# Altium integrated library TI Amplifiers and Linear Difference Amplifier.IntLib: 154 symbols (part 1 of 5)
Pins are listed as number, name and electrical type; pins without a type are passive.

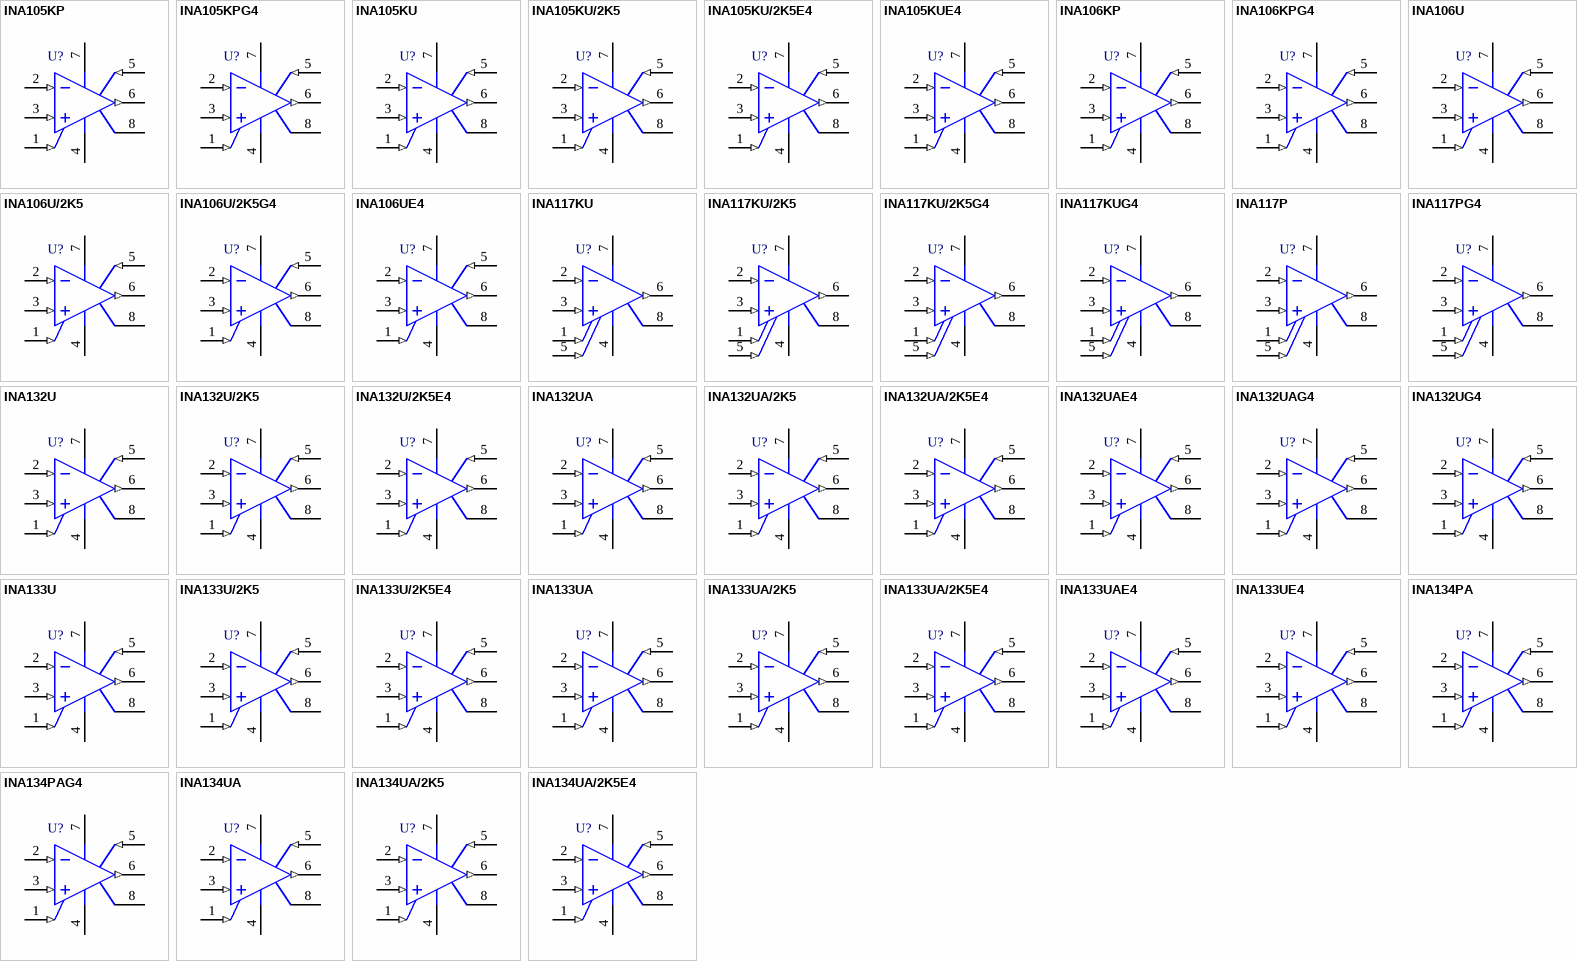
[diagram p0: symbols INA105KP to INA134UA/2K5E4]

## INA105KP
designator U?
Precision Unity Gain Differential Amplifier, -40 to 85 degC, 8-pin DIP (P8), Green (RoHS & no Sb/Br); Manufacturer: Texas Instruments; PartNumber: INA105KP; CMRR(Min)(dB): 72; Gain(V/V): 1; Input Offset (+/-)(Max)(uV): 500; Slew Rate(Typ)(V/us): 3; SubFamily: Difference Amplifier; Vs(Max)(V): 36; Vs(Min)(V): 10; DatasheetVersion: SBOS145; PackageVersion: 4040082/E, 04/2010; PackageReference: P8; PackageDescription: 8-Pin Plastic In-Line, Body 9.59 x 6.35 mm, Pitch 2.54 mm; Supplier 1: Digi-Key; Supplier Part Number 1: INA105KP-ND; Supplier 2: Farnell; Supplier Part Number 2: 1651850; Supplier 3: Newark; Supplier Part Number 3: 04M4538; Supplier 4: Mouser; Supplier Part Number 4: 595-INA105KP; Eco-Plan: Green (RoHS & no Sb/Br); Number of Channels: 1; Mounting Technology: Through Hole; Code_JEDEC: MS-001; ComponentLink1Description: Manufacturer URL; ComponentLink1URL: http://www.ti.com/; ComponentLink2Description: Datasheet; ComponentLink2URL: http://www.ti.com/general/docs/lit/getliterature.tsp?genericPartNumber=INA105&fileType=pdf; ComponentLink3Description: Package Specification; ComponentLink3URL: http://www.ti.com/litv/pdf/mpdi001b
footprint TI-P8 (DIP, 8-Leads, Body 10.15x6.6mm, Pitch 2.54mm)
pins: 1 REF (in), 2 IN- (in), 3 IN+ (in), 4 V- (power), 5 SENSE (in), 6 OUT (out), 7 V+ (power), 8 NC

## INA105KPG4
designator U?
Precision Unity Gain Differential Amplifier, -40 to 85 degC, 8-pin DIP (P8), Green (RoHS & no Sb/Br); Manufacturer: Texas Instruments; PartNumber: INA105KPG4; CMRR(Min)(dB): 72; Gain(V/V): 1; Input Offset (+/-)(Max)(uV): 500; Slew Rate(Typ)(V/us): 3; SubFamily: Difference Amplifier; Vs(Max)(V): 36; Vs(Min)(V): 10; DatasheetVersion: SBOS145; PackageVersion: 4040082/E, 04/2010; PackageReference: P8; PackageDescription: 8-Pin Plastic In-Line, Body 9.59 x 6.35 mm, Pitch 2.54 mm; Supplier 1: Digi-Key; Supplier Part Number 1: INA105KPG4-ND; Supplier 2: Newark; Supplier Part Number 2: 28M6051; Supplier 3: Mouser; Supplier Part Number 3: 595-INA105KPG4; Eco-Plan: Green (RoHS & no Sb/Br); Number of Channels: 1; Mounting Technology: Through Hole; Code_JEDEC: MS-001; ComponentLink1Description: Manufacturer URL; ComponentLink1URL: http://www.ti.com/; ComponentLink2Description: Datasheet; ComponentLink2URL: http://www.ti.com/general/docs/lit/getliterature.tsp?genericPartNumber=INA105&fileType=pdf; ComponentLink3Description: Package Specification; ComponentLink3URL: http://www.ti.com/litv/pdf/mpdi001b
footprint TI-P8 (DIP, 8-Leads, Body 10.15x6.6mm, Pitch 2.54mm)
pins: 1 REF (in), 2 IN- (in), 3 IN+ (in), 4 V- (power), 5 SENSE (in), 6 OUT (out), 7 V+ (power), 8 NC

## INA105KU
designator U?
Precision Unity Gain Differential Amplifier, -40 to 85 degC, 8-pin SOIC (D8), Green (RoHS & no Sb/Br); Manufacturer: Texas Instruments; PartNumber: INA105KU; CMRR(Min)(dB): 72; Gain(V/V): 1; Input Offset (+/-)(Max)(uV): 500; Slew Rate(Typ)(V/us): 3; SubFamily: Difference Amplifier; Vs(Max)(V): 36; Vs(Min)(V): 10; DatasheetVersion: SBOS145; PackageVersion: 4040047-3/M, 06/2011; PackageReference: D8; PackageDescription: 8-Pin Plastic Small Outline, Body 4.9 x 3.9 mm, Pitch 1.27 mm; Supplier 1: Digi-Key; Supplier Part Number 1: INA105KU-ND; Supplier 2: Farnell; Supplier Part Number 2: 1754832; Supplier 3: Newark; Supplier Part Number 3: 35C0475; Supplier 4: Mouser; Supplier Part Number 4: 595-INA105KU; Eco-Plan: Green (RoHS & no Sb/Br); Number of Channels: 1; Mounting Technology: Surface Mount; Code_JEDEC: MS-012; ComponentLink1Description: Manufacturer URL; ComponentLink1URL: http://www.ti.com/; ComponentLink2Description: Datasheet; ComponentLink2URL: http://www.ti.com/general/docs/lit/getliterature.tsp?genericPartNumber=INA105&fileType=pdf; ComponentLink3Description: Package Specification; ComponentLink3URL: http://www.ti.com/litv/pdf/msoi002j
footprint TI-D8_N (SOIC, 8-Leads, Body 5x4mm, Pitch 1.27mm, IPC Medium Density)
footprint TI-D8_L (SOIC, 8-Leads, Body 5x4mm, Pitch 1.27mm, IPC High Density)
footprint TI-D8_M (SOIC, 8-Leads, Body 5x4mm, Pitch 1.27mm, IPC Low Density)
pins: 1 REF (in), 2 IN- (in), 3 IN+ (in), 4 V- (power), 5 SENSE (in), 6 OUT (out), 7 V+ (power), 8 NC

## INA105KU/2K5
designator U?
Precision Unity Gain Differential Amplifier, -40 to 85 degC, 8-pin SOIC (D8), Green (RoHS & no Sb/Br); Manufacturer: Texas Instruments; PartNumber: INA105KU/2K5; CMRR(Min)(dB): 72; Gain(V/V): 1; Input Offset (+/-)(Max)(uV): 500; Slew Rate(Typ)(V/us): 3; SubFamily: Difference Amplifier; Vs(Max)(V): 36; Vs(Min)(V): 10; DatasheetVersion: SBOS145; PackageVersion: 4040047-3/M, 06/2011; PackageReference: D8; PackageDescription: 8-Pin Plastic Small Outline, Body 4.9 x 3.9 mm, Pitch 1.27 mm; Supplier 1: Digi-Key; Supplier Part Number 1: INA105KU/2K5-ND; Supplier 2: Newark; Supplier Part Number 2: 74C9753; Supplier 3: Mouser; Supplier Part Number 3: 595-INA105KU/2K5; Eco-Plan: Green (RoHS & no Sb/Br); Number of Channels: 1; Mounting Technology: Surface Mount; Code_JEDEC: MS-012; ComponentLink1Description: Manufacturer URL; ComponentLink1URL: http://www.ti.com/; ComponentLink2Description: Datasheet; ComponentLink2URL: http://www.ti.com/general/docs/lit/getliterature.tsp?genericPartNumber=INA105&fileType=pdf; ComponentLink3Description: Package Specification; ComponentLink3URL: http://www.ti.com/litv/pdf/msoi002j
footprint TI-D8_N (SOIC, 8-Leads, Body 5x4mm, Pitch 1.27mm, IPC Medium Density)
footprint TI-D8_L (SOIC, 8-Leads, Body 5x4mm, Pitch 1.27mm, IPC High Density)
footprint TI-D8_M (SOIC, 8-Leads, Body 5x4mm, Pitch 1.27mm, IPC Low Density)
pins: 1 REF (in), 2 IN- (in), 3 IN+ (in), 4 V- (power), 5 SENSE (in), 6 OUT (out), 7 V+ (power), 8 NC

## INA105KU/2K5E4
designator U?
Precision Unity Gain Differential Amplifier, -40 to 85 degC, 8-pin SOIC (D8), Green (RoHS & no Sb/Br); Manufacturer: Texas Instruments; PartNumber: INA105KU/2K5E4; CMRR(Min)(dB): 72; Gain(V/V): 1; Input Offset (+/-)(Max)(uV): 500; Slew Rate(Typ)(V/us): 3; SubFamily: Difference Amplifier; Vs(Max)(V): 36; Vs(Min)(V): 10; DatasheetVersion: SBOS145; PackageVersion: 4040047-3/M, 06/2011; PackageReference: D8; PackageDescription: 8-Pin Plastic Small Outline, Body 4.9 x 3.9 mm, Pitch 1.27 mm; Supplier 1: Digi-Key; Supplier Part Number 1: INA105KU/2K5E4-ND; Supplier 2: Newark; Supplier Part Number 2: 61K0020; Supplier 3: Mouser; Supplier Part Number 3: 595-INA105KU/2K5E4; Eco-Plan: Green (RoHS & no Sb/Br); Number of Channels: 1; Mounting Technology: Surface Mount; Code_JEDEC: MS-012; ComponentLink1Description: Manufacturer URL; ComponentLink1URL: http://www.ti.com/; ComponentLink2Description: Datasheet; ComponentLink2URL: http://www.ti.com/general/docs/lit/getliterature.tsp?genericPartNumber=INA105&fileType=pdf; ComponentLink3Description: Package Specification; ComponentLink3URL: http://www.ti.com/litv/pdf/msoi002j
footprint TI-D8_N (SOIC, 8-Leads, Body 5x4mm, Pitch 1.27mm, IPC Medium Density)
footprint TI-D8_L (SOIC, 8-Leads, Body 5x4mm, Pitch 1.27mm, IPC High Density)
footprint TI-D8_M (SOIC, 8-Leads, Body 5x4mm, Pitch 1.27mm, IPC Low Density)
pins: 1 REF (in), 2 IN- (in), 3 IN+ (in), 4 V- (power), 5 SENSE (in), 6 OUT (out), 7 V+ (power), 8 NC

## INA105KUE4
designator U?
Precision Unity Gain Differential Amplifier, -40 to 85 degC, 8-pin SOIC (D8), Green (RoHS & no Sb/Br); Manufacturer: Texas Instruments; PartNumber: INA105KUE4; CMRR(Min)(dB): 72; Gain(V/V): 1; Input Offset (+/-)(Max)(uV): 500; Slew Rate(Typ)(V/us): 3; SubFamily: Difference Amplifier; Vs(Max)(V): 36; Vs(Min)(V): 10; DatasheetVersion: SBOS145; PackageVersion: 4040047-3/M, 06/2011; PackageReference: D8; PackageDescription: 8-Pin Plastic Small Outline, Body 4.9 x 3.9 mm, Pitch 1.27 mm; Supplier 1: Digi-Key; Supplier Part Number 1: INA105KUE4-ND; Supplier 2: Newark; Supplier Part Number 2: 61K0021; Supplier 3: Mouser; Supplier Part Number 3: 595-INA105KUE4; Eco-Plan: Green (RoHS & no Sb/Br); Number of Channels: 1; Mounting Technology: Surface Mount; Code_JEDEC: MS-012; ComponentLink1Description: Manufacturer URL; ComponentLink1URL: http://www.ti.com/; ComponentLink2Description: Datasheet; ComponentLink2URL: http://www.ti.com/general/docs/lit/getliterature.tsp?genericPartNumber=INA105&fileType=pdf; ComponentLink3Description: Package Specification; ComponentLink3URL: http://www.ti.com/litv/pdf/msoi002j
footprint TI-D8_N (SOIC, 8-Leads, Body 5x4mm, Pitch 1.27mm, IPC Medium Density)
footprint TI-D8_L (SOIC, 8-Leads, Body 5x4mm, Pitch 1.27mm, IPC High Density)
footprint TI-D8_M (SOIC, 8-Leads, Body 5x4mm, Pitch 1.27mm, IPC Low Density)
pins: 1 REF (in), 2 IN- (in), 3 IN+ (in), 4 V- (power), 5 SENSE (in), 6 OUT (out), 7 V+ (power), 8 NC

## INA106KP
designator U?
Precision Fixed-Gain Differential Amplifier, -40 to 85 degC, 8-pin DIP (P8), Green (RoHS & no Sb/Br); Manufacturer: Texas Instruments; PartNumber: INA106KP; CMRR(Min)(dB): 86; Gain(V/V): 10; Input Offset (+/-)(Max)(uV): 200; Number of Channels: 1; Slew Rate(Typ)(V/us): 3; SubFamily: Difference Amplifier; Vs(Max)(V): 36; DatasheetVersion: SBOS152A; PackageVersion: 4040082/E, 04/2010; PackageReference: P8; PackageDescription: 8-Pin Plastic In-Line, Body 9.59 x 6.35 mm, Pitch 2.54 mm; Supplier 1: Digi-Key; Supplier Part Number 1: INA106KP-ND; Supplier 2: Farnell; Supplier Part Number 2: 1417415; Supplier 3: Mouser; Supplier Part Number 3: 595-INA106KP; Eco-Plan: Green (RoHS & no Sb/Br); Vs(Min)(V): 10; Mounting Technology: Through Hole; Code_JEDEC: MS-001; ComponentLink1Description: Manufacturer URL; ComponentLink1URL: http://www.ti.com/; ComponentLink2Description: Datasheet; ComponentLink2URL: http://www.ti.com/general/docs/lit/getliterature.tsp?genericPartNumber=INA106&fileType=pdf; ComponentLink3Description: Package Specification; ComponentLink3URL: http://www.ti.com/litv/pdf/mpdi001b
footprint TI-P8 (DIP, 8-Leads, Body 10.15x6.6mm, Pitch 2.54mm)
pins: 1 REF (in), 2 IN- (in), 3 IN+ (in), 4 V- (power), 5 SENSE (in), 6 OUT (out), 7 V+ (power), 8 NC

## INA106KPG4
designator U?
Precision Fixed-Gain Differential Amplifier, -40 to 85 degC, 8-pin DIP (P8), Green (RoHS & no Sb/Br); Manufacturer: Texas Instruments; PartNumber: INA106KPG4; CMRR(Min)(dB): 86; Gain(V/V): 10; Input Offset (+/-)(Max)(uV): 200; Number of Channels: 1; Slew Rate(Typ)(V/us): 3; SubFamily: Difference Amplifier; Vs(Max)(V): 36; DatasheetVersion: SBOS152A; PackageVersion: 4040082/E, 04/2010; PackageReference: P8; PackageDescription: 8-Pin Plastic In-Line, Body 9.59 x 6.35 mm, Pitch 2.54 mm; Supplier 1: Digi-Key; Supplier Part Number 1: INA106KPG4-ND; Supplier 2: Newark; Supplier Part Number 2: 26M9604; Supplier 3: Mouser; Supplier Part Number 3: 595-INA106KPG4; Eco-Plan: Green (RoHS & no Sb/Br); Vs(Min)(V): 10; Mounting Technology: Through Hole; Code_JEDEC: MS-001; ComponentLink1Description: Manufacturer URL; ComponentLink1URL: http://www.ti.com/; ComponentLink2Description: Datasheet; ComponentLink2URL: http://www.ti.com/general/docs/lit/getliterature.tsp?genericPartNumber=INA106&fileType=pdf; ComponentLink3Description: Package Specification; ComponentLink3URL: http://www.ti.com/litv/pdf/mpdi001b
footprint TI-P8 (DIP, 8-Leads, Body 10.15x6.6mm, Pitch 2.54mm)
pins: 1 REF (in), 2 IN- (in), 3 IN+ (in), 4 V- (power), 5 SENSE (in), 6 OUT (out), 7 V+ (power), 8 NC

## INA106U
designator U?
Precision Fixed-Gain Differential Amplifier, -40 to 85 degC, 8-pin SOIC (D8), Green (RoHS & no Sb/Br); Manufacturer: Texas Instruments; PartNumber: INA106U; CMRR(Min)(dB): 86; Gain(V/V): 10; Input Offset (+/-)(Max)(uV): 200; Number of Channels: 1; Slew Rate(Typ)(V/us): 3; SubFamily: Difference Amplifier; Vs(Max)(V): 36; DatasheetVersion: SBOS152A; PackageVersion: 4040047-3/M, 06/2011; PackageReference: D8; PackageDescription: 8-Pin Plastic Small Outline, Body 4.9 x 3.9 mm, Pitch 1.27 mm; Supplier 1: Digi-Key; Supplier Part Number 1: INA106U-ND; Supplier 2: Farnell; Supplier Part Number 2: 1212395; Supplier 3: Newark; Supplier Part Number 3: 74C9754; Supplier 4: Mouser; Supplier Part Number 4: 595-INA106U; Eco-Plan: Green (RoHS & no Sb/Br); Vs(Min)(V): 10; Mounting Technology: Surface Mount; Code_JEDEC: MS-012; ComponentLink1Description: Manufacturer URL; ComponentLink1URL: http://www.ti.com/; ComponentLink2Description: Datasheet; ComponentLink2URL: http://www.ti.com/general/docs/lit/getliterature.tsp?genericPartNumber=INA106&fileType=pdf; ComponentLink3Description: Package Specification; ComponentLink3URL: http://www.ti.com/litv/pdf/msoi002j
footprint TI-D8_N (SOIC, 8-Leads, Body 5x4mm, Pitch 1.27mm, IPC Medium Density)
footprint TI-D8_L (SOIC, 8-Leads, Body 5x4mm, Pitch 1.27mm, IPC High Density)
footprint TI-D8_M (SOIC, 8-Leads, Body 5x4mm, Pitch 1.27mm, IPC Low Density)
pins: 1 REF (in), 2 IN- (in), 3 IN+ (in), 4 V- (power), 5 SENSE (in), 6 OUT (out), 7 V+ (power), 8 NC

## INA106U/2K5
designator U?
Precision Fixed-Gain Differential Amplifier, -40 to 85 degC, 8-pin SOIC (D8), Green (RoHS & no Sb/Br); Manufacturer: Texas Instruments; PartNumber: INA106U/2K5; CMRR(Min)(dB): 86; Gain(V/V): 10; Input Offset (+/-)(Max)(uV): 200; Number of Channels: 1; Slew Rate(Typ)(V/us): 3; SubFamily: Difference Amplifier; Vs(Max)(V): 36; DatasheetVersion: SBOS152A; PackageVersion: 4040047-3/M, 06/2011; PackageReference: D8; PackageDescription: 8-Pin Plastic Small Outline, Body 4.9 x 3.9 mm, Pitch 1.27 mm; Supplier 1: Digi-Key; Supplier Part Number 1: INA106U/2K5-ND; Supplier 2: Newark; Supplier Part Number 2: 18M7378; Supplier 3: Mouser; Supplier Part Number 3: 595-INA106U/2K5; Eco-Plan: Green (RoHS & no Sb/Br); Vs(Min)(V): 10; Mounting Technology: Surface Mount; Code_JEDEC: MS-012; ComponentLink1Description: Manufacturer URL; ComponentLink1URL: http://www.ti.com/; ComponentLink2Description: Datasheet; ComponentLink2URL: http://www.ti.com/general/docs/lit/getliterature.tsp?genericPartNumber=INA106&fileType=pdf; ComponentLink3Description: Package Specification; ComponentLink3URL: http://www.ti.com/litv/pdf/msoi002j
footprint TI-D8_N (SOIC, 8-Leads, Body 5x4mm, Pitch 1.27mm, IPC Medium Density)
footprint TI-D8_L (SOIC, 8-Leads, Body 5x4mm, Pitch 1.27mm, IPC High Density)
footprint TI-D8_M (SOIC, 8-Leads, Body 5x4mm, Pitch 1.27mm, IPC Low Density)
pins: 1 REF (in), 2 IN- (in), 3 IN+ (in), 4 V- (power), 5 SENSE (in), 6 OUT (out), 7 V+ (power), 8 NC

## INA106U/2K5G4
designator U?
Precision Fixed-Gain Differential Amplifier, -40 to 85 degC, 8-pin SOIC (D8), Green (RoHS & no Sb/Br); Manufacturer: Texas Instruments; PartNumber: INA106U/2K5G4; CMRR(Min)(dB): 86; Gain(V/V): 10; Input Offset (+/-)(Max)(uV): 200; Number of Channels: 1; Slew Rate(Typ)(V/us): 3; SubFamily: Difference Amplifier; Vs(Max)(V): 36; DatasheetVersion: SBOS152A; PackageVersion: 4040047-3/M, 06/2011; PackageReference: D8; PackageDescription: 8-Pin Plastic Small Outline, Body 4.9 x 3.9 mm, Pitch 1.27 mm; Supplier 1: Digi-Key; Supplier Part Number 1: INA106U/2K5G4-ND; Supplier 2: Mouser; Supplier Part Number 2: 595-INA106U/2K5G4; Eco-Plan: Green (RoHS & no Sb/Br); Vs(Min)(V): 10; Mounting Technology: Surface Mount; Code_JEDEC: MS-012; ComponentLink1Description: Manufacturer URL; ComponentLink1URL: http://www.ti.com/; ComponentLink2Description: Datasheet; ComponentLink2URL: http://www.ti.com/general/docs/lit/getliterature.tsp?genericPartNumber=INA106&fileType=pdf; ComponentLink3Description: Package Specification; ComponentLink3URL: http://www.ti.com/litv/pdf/msoi002j
footprint TI-D8_N (SOIC, 8-Leads, Body 5x4mm, Pitch 1.27mm, IPC Medium Density)
footprint TI-D8_L (SOIC, 8-Leads, Body 5x4mm, Pitch 1.27mm, IPC High Density)
footprint TI-D8_M (SOIC, 8-Leads, Body 5x4mm, Pitch 1.27mm, IPC Low Density)
pins: 1 REF (in), 2 IN- (in), 3 IN+ (in), 4 V- (power), 5 SENSE (in), 6 OUT (out), 7 V+ (power), 8 NC

## INA106UE4
designator U?
Precision Fixed-Gain Differential Amplifier, -40 to 85 degC, 8-pin SOIC (D8), Green (RoHS & no Sb/Br); Manufacturer: Texas Instruments; PartNumber: INA106UE4; CMRR(Min)(dB): 86; Gain(V/V): 10; Input Offset (+/-)(Max)(uV): 200; Number of Channels: 1; Slew Rate(Typ)(V/us): 3; SubFamily: Difference Amplifier; Vs(Max)(V): 36; DatasheetVersion: SBOS152A; PackageVersion: 4040047-3/M, 06/2011; PackageReference: D8; PackageDescription: 8-Pin Plastic Small Outline, Body 4.9 x 3.9 mm, Pitch 1.27 mm; Supplier 1: Digi-Key; Supplier Part Number 1: INA106UE4-ND; Supplier 2: Mouser; Supplier Part Number 2: 595-INA106UE4; Eco-Plan: Green (RoHS & no Sb/Br); Vs(Min)(V): 10; Mounting Technology: Surface Mount; Code_JEDEC: MS-012; ComponentLink1Description: Manufacturer URL; ComponentLink1URL: http://www.ti.com/; ComponentLink2Description: Datasheet; ComponentLink2URL: http://www.ti.com/general/docs/lit/getliterature.tsp?genericPartNumber=INA106&fileType=pdf; ComponentLink3Description: Package Specification; ComponentLink3URL: http://www.ti.com/litv/pdf/msoi002j
footprint TI-D8_N (SOIC, 8-Leads, Body 5x4mm, Pitch 1.27mm, IPC Medium Density)
footprint TI-D8_L (SOIC, 8-Leads, Body 5x4mm, Pitch 1.27mm, IPC High Density)
footprint TI-D8_M (SOIC, 8-Leads, Body 5x4mm, Pitch 1.27mm, IPC Low Density)
pins: 1 REF (in), 2 IN- (in), 3 IN+ (in), 4 V- (power), 5 SENSE (in), 6 OUT (out), 7 V+ (power), 8 NC

## INA117KU
designator U?
High Common-Mode Voltage Difference Amplifier, -40 to 85 degC, 8-pin SOIC (D8), Green (RoHS & no Sb/Br); Manufacturer: Texas Instruments; PartNumber: INA117KU; CMRR(Min)(dB): 70; Gain(V/V): 1; Input Offset (+/-)(Max)(uV): 2000; Slew Rate(Typ)(V/us): 2.6; Vs(Max)(V): 36; Vs(Min)(V): 10; DatasheetVersion: SBOS154A; PackageVersion: 4040047-3/M, 06/2011; PackageReference: D8; PackageDescription: 8-Pin Plastic Small Outline, Body 4.9 x 3.9 mm, Pitch 1.27 mm; Supplier 1: Digi-Key; Supplier Part Number 1: INA117KU-ND; Supplier 2: Newark; Supplier Part Number 2: 17M6717; Supplier 3: Mouser; Supplier Part Number 3: 595-INA117KU; Eco-Plan: Green (RoHS & no Sb/Br); Number of Channels: 1; SubFamily: Difference Amplifier; Mounting Technology: Surface Mount; Code_JEDEC: MS-012; ComponentLink1Description: Manufacturer URL; ComponentLink1URL: http://www.ti.com/; ComponentLink2Description: Datasheet; ComponentLink2URL: http://www.ti.com/general/docs/lit/getliterature.tsp?genericPartNumber=INA117&fileType=pdf; ComponentLink3Description: Package Specification; ComponentLink3URL: http://www.ti.com/litv/pdf/msoi002j
footprint TI-D8_N (SOIC, 8-Leads, Body 5x4mm, Pitch 1.27mm, IPC Medium Density)
footprint TI-D8_L (SOIC, 8-Leads, Body 5x4mm, Pitch 1.27mm, IPC High Density)
footprint TI-D8_M (SOIC, 8-Leads, Body 5x4mm, Pitch 1.27mm, IPC Low Density)
pins: 1 REFB (in), 2 IN- (in), 3 IN+ (in), 4 V- (power), 5 REFA (in), 6 OUT (out), 7 V+ (power), 8 COMP

## INA117KU/2K5
designator U?
High Common-Mode Voltage Difference Amplifier, -40 to 85 degC, 8-pin SOIC (D8), Green (RoHS & no Sb/Br); Manufacturer: Texas Instruments; PartNumber: INA117KU/2K5; CMRR(Min)(dB): 70; Gain(V/V): 1; Input Offset (+/-)(Max)(uV): 2000; Slew Rate(Typ)(V/us): 2.6; Vs(Max)(V): 36; Vs(Min)(V): 10; DatasheetVersion: SBOS154A; PackageVersion: 4040047-3/M, 06/2011; PackageReference: D8; PackageDescription: 8-Pin Plastic Small Outline, Body 4.9 x 3.9 mm, Pitch 1.27 mm; Supplier 1: Digi-Key; Supplier Part Number 1: 296-26055-2-ND; Supplier 2: Digi-Key; Supplier Part Number 2: 296-26055-1-ND; Supplier 3: Digi-Key; Supplier Part Number 3: 296-26055-6-ND; Supplier 4: Newark; Supplier Part Number 4: 74C9765; Supplier 5: Mouser; Supplier Part Number 5: 595-INA117KU/2K5; Eco-Plan: Green (RoHS & no Sb/Br); Number of Channels: 1; SubFamily: Difference Amplifier; Mounting Technology: Surface Mount; Code_JEDEC: MS-012; ComponentLink1Description: Manufacturer URL; ComponentLink1URL: http://www.ti.com/; ComponentLink2Description: Datasheet; ComponentLink2URL: http://www.ti.com/general/docs/lit/getliterature.tsp?genericPartNumber=INA117&fileType=pdf; ComponentLink3Description: Package Specification; ComponentLink3URL: http://www.ti.com/litv/pdf/msoi002j
footprint TI-D8_N (SOIC, 8-Leads, Body 5x4mm, Pitch 1.27mm, IPC Medium Density)
footprint TI-D8_L (SOIC, 8-Leads, Body 5x4mm, Pitch 1.27mm, IPC High Density)
footprint TI-D8_M (SOIC, 8-Leads, Body 5x4mm, Pitch 1.27mm, IPC Low Density)
pins: 1 REFB (in), 2 IN- (in), 3 IN+ (in), 4 V- (power), 5 REFA (in), 6 OUT (out), 7 V+ (power), 8 COMP

## INA117KU/2K5G4
designator U?
High Common-Mode Voltage Difference Amplifier, -40 to 85 degC, 8-pin SOIC (D8), Green (RoHS & no Sb/Br); Manufacturer: Texas Instruments; PartNumber: INA117KU/2K5G4; CMRR(Min)(dB): 70; Gain(V/V): 1; Input Offset (+/-)(Max)(uV): 2000; Slew Rate(Typ)(V/us): 2.6; Vs(Max)(V): 36; Vs(Min)(V): 10; DatasheetVersion: SBOS154A; PackageVersion: 4040047-3/M, 06/2011; PackageReference: D8; PackageDescription: 8-Pin Plastic Small Outline, Body 4.9 x 3.9 mm, Pitch 1.27 mm; Supplier 1: Digi-Key; Supplier Part Number 1: INA117KU/2K5G4-ND; Supplier 2: Newark; Supplier Part Number 2: 88K4599; Supplier 3: Mouser; Supplier Part Number 3: 595-INA117KU/2K5G4; Eco-Plan: Green (RoHS & no Sb/Br); Number of Channels: 1; SubFamily: Difference Amplifier; Mounting Technology: Surface Mount; Code_JEDEC: MS-012; ComponentLink1Description: Manufacturer URL; ComponentLink1URL: http://www.ti.com/; ComponentLink2Description: Datasheet; ComponentLink2URL: http://www.ti.com/general/docs/lit/getliterature.tsp?genericPartNumber=INA117&fileType=pdf; ComponentLink3Description: Package Specification; ComponentLink3URL: http://www.ti.com/litv/pdf/msoi002j
footprint TI-D8_N (SOIC, 8-Leads, Body 5x4mm, Pitch 1.27mm, IPC Medium Density)
footprint TI-D8_L (SOIC, 8-Leads, Body 5x4mm, Pitch 1.27mm, IPC High Density)
footprint TI-D8_M (SOIC, 8-Leads, Body 5x4mm, Pitch 1.27mm, IPC Low Density)
pins: 1 REFB (in), 2 IN- (in), 3 IN+ (in), 4 V- (power), 5 REFA (in), 6 OUT (out), 7 V+ (power), 8 COMP

## INA117KUG4
designator U?
High Common-Mode Voltage Difference Amplifier, -40 to 85 degC, 8-pin SOIC (D8), Green (RoHS & no Sb/Br); Manufacturer: Texas Instruments; PartNumber: INA117KUG4; CMRR(Min)(dB): 70; Gain(V/V): 1; Input Offset (+/-)(Max)(uV): 2000; Slew Rate(Typ)(V/us): 2.6; Vs(Max)(V): 36; Vs(Min)(V): 10; DatasheetVersion: SBOS154A; PackageVersion: 4040047-3/M, 06/2011; PackageReference: D8; PackageDescription: 8-Pin Plastic Small Outline, Body 4.9 x 3.9 mm, Pitch 1.27 mm; Supplier 1: Digi-Key; Supplier Part Number 1: INA117KUG4-ND; Supplier 2: Farnell; Supplier Part Number 2: 1206895; Supplier 3: Newark; Supplier Part Number 3: 80K2275; Supplier 4: Mouser; Supplier Part Number 4: 595-INA117KUG4; Eco-Plan: Green (RoHS & no Sb/Br); Number of Channels: 1; SubFamily: Difference Amplifier; Mounting Technology: Surface Mount; Code_JEDEC: MS-012; ComponentLink1Description: Manufacturer URL; ComponentLink1URL: http://www.ti.com/; ComponentLink2Description: Datasheet; ComponentLink2URL: http://www.ti.com/general/docs/lit/getliterature.tsp?genericPartNumber=INA117&fileType=pdf; ComponentLink3Description: Package Specification; ComponentLink3URL: http://www.ti.com/litv/pdf/msoi002j
footprint TI-D8_N (SOIC, 8-Leads, Body 5x4mm, Pitch 1.27mm, IPC Medium Density)
footprint TI-D8_L (SOIC, 8-Leads, Body 5x4mm, Pitch 1.27mm, IPC High Density)
footprint TI-D8_M (SOIC, 8-Leads, Body 5x4mm, Pitch 1.27mm, IPC Low Density)
pins: 1 REFB (in), 2 IN- (in), 3 IN+ (in), 4 V- (power), 5 REFA (in), 6 OUT (out), 7 V+ (power), 8 COMP

## INA117P
designator U?
High Common-Mode Voltage Difference Amplifier, -40 to 85 degC, 8-pin DIP (P8), Green (RoHS & no Sb/Br); Manufacturer: Texas Instruments; PartNumber: INA117P; CMRR(Min)(dB): 70; Gain(V/V): 1; Input Offset (+/-)(Max)(uV): 1000; Slew Rate(Typ)(V/us): 2.6; Vs(Max)(V): 36; Vs(Min)(V): 10; DatasheetVersion: SBOS154A; PackageVersion: 4040082/E, 04/2010; PackageReference: P8; PackageDescription: 8-Pin Plastic In-Line, Body 9.59 x 6.35 mm, Pitch 2.54 mm; Supplier 1: Digi-Key; Supplier Part Number 1: INA117P-ND; Supplier 2: Farnell; Supplier Part Number 2: 1470350; Supplier 3: Newark; Supplier Part Number 3: 74K3811; Supplier 4: Mouser; Supplier Part Number 4: 595-INA117P; Eco-Plan: Green (RoHS & no Sb/Br); Number of Channels: 1; SubFamily: Difference Amplifier; Mounting Technology: Through Hole; Code_JEDEC: MS-001; ComponentLink1Description: Manufacturer URL; ComponentLink1URL: http://www.ti.com/; ComponentLink2Description: Datasheet; ComponentLink2URL: http://www.ti.com/general/docs/lit/getliterature.tsp?genericPartNumber=INA117&fileType=pdf; ComponentLink3Description: Package Specification; ComponentLink3URL: http://www.ti.com/litv/pdf/mpdi001b
footprint TI-P8 (DIP, 8-Leads, Body 10.15x6.6mm, Pitch 2.54mm)
pins: 1 REFB (in), 2 IN- (in), 3 IN+ (in), 4 V- (power), 5 REFA (in), 6 OUT (out), 7 V+ (power), 8 COMP

## INA117PG4
designator U?
High Common-Mode Voltage Difference Amplifier, -40 to 85 degC, 8-pin DIP (P8), Green (RoHS & no Sb/Br); Manufacturer: Texas Instruments; PartNumber: INA117PG4; CMRR(Min)(dB): 70; Gain(V/V): 1; Input Offset (+/-)(Max)(uV): 1000; Slew Rate(Typ)(V/us): 2.6; Vs(Max)(V): 36; Vs(Min)(V): 10; DatasheetVersion: SBOS154A; PackageVersion: 4040082/E, 04/2010; PackageReference: P8; PackageDescription: 8-Pin Plastic In-Line, Body 9.59 x 6.35 mm, Pitch 2.54 mm; Supplier 1: Digi-Key; Supplier Part Number 1: INA117PG4-ND; Supplier 2: Newark; Supplier Part Number 2: 28M6058; Supplier 3: Mouser; Supplier Part Number 3: 595-INA117PG4; Eco-Plan: Green (RoHS & no Sb/Br); Number of Channels: 1; SubFamily: Difference Amplifier; Mounting Technology: Through Hole; Code_JEDEC: MS-001; ComponentLink1Description: Manufacturer URL; ComponentLink1URL: http://www.ti.com/; ComponentLink2Description: Datasheet; ComponentLink2URL: http://www.ti.com/general/docs/lit/getliterature.tsp?genericPartNumber=INA117&fileType=pdf; ComponentLink3Description: Package Specification; ComponentLink3URL: http://www.ti.com/litv/pdf/mpdi001b
footprint TI-P8 (DIP, 8-Leads, Body 10.15x6.6mm, Pitch 2.54mm)
pins: 1 REFB (in), 2 IN- (in), 3 IN+ (in), 4 V- (power), 5 REFA (in), 6 OUT (out), 7 V+ (power), 8 COMP

## INA132U
designator U?
Low Power, Single-Supply Difference Amplifier, -40 to 85 degC, 8-pin SOIC (D8), Green (RoHS & no Sb/Br); Manufacturer: Texas Instruments; PartNumber: INA132U; CMRR(Min)(dB): 76; Gain(V/V): 1; Input Offset (+/-)(Max)(uV): 250; Slew Rate(Typ)(V/us): 0.1; Vs(Max)(V): 36; Vs(Min)(V): 2.7; DatasheetVersion: SBOS059; PackageVersion: 4040047-3/M, 06/2011; PackageReference: D8; PackageDescription: 8-Pin Plastic Small Outline, Body 4.9 x 3.9 mm, Pitch 1.27 mm; Supplier 1: Digi-Key; Supplier Part Number 1: INA132U-ND; Supplier 2: Farnell; Supplier Part Number 2: 1212416; Supplier 3: Newark; Supplier Part Number 3: 35C1734; Supplier 4: Newark; Supplier Part Number 4: 28X4244; Supplier 5: Mouser; Supplier Part Number 5: 595-INA132U; Eco-Plan: Green (RoHS & no Sb/Br); Number of Channels: 1; SubFamily: Difference Amplifier; Mounting Technology: Surface Mount; Code_JEDEC: MS-012; ComponentLink1Description: Manufacturer URL; ComponentLink1URL: http://www.ti.com/; ComponentLink2Description: Datasheet; ComponentLink2URL: http://www.ti.com/general/docs/lit/getliterature.tsp?genericPartNumber=INA132&fileType=pdf; ComponentLink3Description: Package Specification; ComponentLink3URL: http://www.ti.com/litv/pdf/msoi002j
footprint TI-D8_N (SOIC, 8-Leads, Body 5x4mm, Pitch 1.27mm, IPC Medium Density)
footprint TI-D8_L (SOIC, 8-Leads, Body 5x4mm, Pitch 1.27mm, IPC High Density)
footprint TI-D8_M (SOIC, 8-Leads, Body 5x4mm, Pitch 1.27mm, IPC Low Density)
pins: 1 REF (in), 2 IN- (in), 3 IN+ (in), 4 V- (power), 5 SENSE (in), 6 OUT (out), 7 V+ (power), 8 NC

## INA132U/2K5
designator U?
Low Power, Single-Supply Difference Amplifier, -40 to 85 degC, 8-pin SOIC (D8), Green (RoHS & no Sb/Br); Manufacturer: Texas Instruments; PartNumber: INA132U/2K5; CMRR(Min)(dB): 76; Gain(V/V): 1; Input Offset (+/-)(Max)(uV): 250; Slew Rate(Typ)(V/us): 0.1; Vs(Max)(V): 36; Vs(Min)(V): 2.7; DatasheetVersion: SBOS059; PackageVersion: 4040047-3/M, 06/2011; PackageReference: D8; PackageDescription: 8-Pin Plastic Small Outline, Body 4.9 x 3.9 mm, Pitch 1.27 mm; Supplier 1: Digi-Key; Supplier Part Number 1: INA132U/2K5-ND; Supplier 2: Mouser; Supplier Part Number 2: 595-INA132U/2K5; Eco-Plan: Green (RoHS & no Sb/Br); Number of Channels: 1; SubFamily: Difference Amplifier; Mounting Technology: Surface Mount; Code_JEDEC: MS-012; ComponentLink1Description: Manufacturer URL; ComponentLink1URL: http://www.ti.com/; ComponentLink2Description: Datasheet; ComponentLink2URL: http://www.ti.com/general/docs/lit/getliterature.tsp?genericPartNumber=INA132&fileType=pdf; ComponentLink3Description: Package Specification; ComponentLink3URL: http://www.ti.com/litv/pdf/msoi002j
footprint TI-D8_N (SOIC, 8-Leads, Body 5x4mm, Pitch 1.27mm, IPC Medium Density)
footprint TI-D8_L (SOIC, 8-Leads, Body 5x4mm, Pitch 1.27mm, IPC High Density)
footprint TI-D8_M (SOIC, 8-Leads, Body 5x4mm, Pitch 1.27mm, IPC Low Density)
pins: 1 REF (in), 2 IN- (in), 3 IN+ (in), 4 V- (power), 5 SENSE (in), 6 OUT (out), 7 V+ (power), 8 NC

## INA132U/2K5E4
designator U?
Low Power, Single-Supply Difference Amplifier, -40 to 85 degC, 8-pin SOIC (D8), Green (RoHS & no Sb/Br); Manufacturer: Texas Instruments; PartNumber: INA132U/2K5E4; CMRR(Min)(dB): 76; Gain(V/V): 1; Input Offset (+/-)(Max)(uV): 250; Slew Rate(Typ)(V/us): 0.1; Vs(Max)(V): 36; Vs(Min)(V): 2.7; DatasheetVersion: SBOS059; PackageVersion: 4040047-3/M, 06/2011; PackageReference: D8; PackageDescription: 8-Pin Plastic Small Outline, Body 4.9 x 3.9 mm, Pitch 1.27 mm; Supplier 1: Digi-Key; Supplier Part Number 1: INA132U/2K5E4-ND; Supplier 2: Mouser; Supplier Part Number 2: 595-INA132U/2K5E4; Eco-Plan: Green (RoHS & no Sb/Br); Number of Channels: 1; SubFamily: Difference Amplifier; Mounting Technology: Surface Mount; Code_JEDEC: MS-012; ComponentLink1Description: Manufacturer URL; ComponentLink1URL: http://www.ti.com/; ComponentLink2Description: Datasheet; ComponentLink2URL: http://www.ti.com/general/docs/lit/getliterature.tsp?genericPartNumber=INA132&fileType=pdf; ComponentLink3Description: Package Specification; ComponentLink3URL: http://www.ti.com/litv/pdf/msoi002j
footprint TI-D8_N (SOIC, 8-Leads, Body 5x4mm, Pitch 1.27mm, IPC Medium Density)
footprint TI-D8_L (SOIC, 8-Leads, Body 5x4mm, Pitch 1.27mm, IPC High Density)
footprint TI-D8_M (SOIC, 8-Leads, Body 5x4mm, Pitch 1.27mm, IPC Low Density)
pins: 1 REF (in), 2 IN- (in), 3 IN+ (in), 4 V- (power), 5 SENSE (in), 6 OUT (out), 7 V+ (power), 8 NC

## INA132UA
designator U?
Low Power, Single-Supply Difference Amplifier, -40 to 85 degC, 8-pin SOIC (D8), Green (RoHS & no Sb/Br); Manufacturer: Texas Instruments; PartNumber: INA132UA; CMRR(Min)(dB): 70; Gain(V/V): 1; Input Offset (+/-)(Max)(uV): 500; Slew Rate(Typ)(V/us): 0.1; Vs(Max)(V): 36; Vs(Min)(V): 2.7; DatasheetVersion: SBOS059; PackageVersion: 4040047-3/M, 06/2011; PackageReference: D8; PackageDescription: 8-Pin Plastic Small Outline, Body 4.9 x 3.9 mm, Pitch 1.27 mm; Supplier 1: Digi-Key; Supplier Part Number 1: INA132UA-ND; Supplier 2: Farnell; Supplier Part Number 2: 2323249; Supplier 3: Newark; Supplier Part Number 3: 05M6400; Supplier 4: Mouser; Supplier Part Number 4: 595-INA132UA; Eco-Plan: Green (RoHS & no Sb/Br); Number of Channels: 1; SubFamily: Difference Amplifier; Mounting Technology: Surface Mount; Code_JEDEC: MS-012; ComponentLink1Description: Manufacturer URL; ComponentLink1URL: http://www.ti.com/; ComponentLink2Description: Datasheet; ComponentLink2URL: http://www.ti.com/general/docs/lit/getliterature.tsp?genericPartNumber=INA132&fileType=pdf; ComponentLink3Description: Package Specification; ComponentLink3URL: http://www.ti.com/litv/pdf/msoi002j
footprint TI-D8_N (SOIC, 8-Leads, Body 5x4mm, Pitch 1.27mm, IPC Medium Density)
footprint TI-D8_L (SOIC, 8-Leads, Body 5x4mm, Pitch 1.27mm, IPC High Density)
footprint TI-D8_M (SOIC, 8-Leads, Body 5x4mm, Pitch 1.27mm, IPC Low Density)
pins: 1 REF (in), 2 IN- (in), 3 IN+ (in), 4 V- (power), 5 SENSE (in), 6 OUT (out), 7 V+ (power), 8 NC

## INA132UA/2K5
designator U?
Low Power, Single-Supply Difference Amplifier, -40 to 85 degC, 8-pin SOIC (D8), Green (RoHS & no Sb/Br); Manufacturer: Texas Instruments; PartNumber: INA132UA/2K5; CMRR(Min)(dB): 70; Gain(V/V): 1; Input Offset (+/-)(Max)(uV): 500; Slew Rate(Typ)(V/us): 0.1; Vs(Max)(V): 36; Vs(Min)(V): 2.7; DatasheetVersion: SBOS059; PackageVersion: 4040047-3/M, 06/2011; PackageReference: D8; PackageDescription: 8-Pin Plastic Small Outline, Body 4.9 x 3.9 mm, Pitch 1.27 mm; Supplier 1: Digi-Key; Supplier Part Number 1: INA132UA/2K5-ND; Supplier 2: Newark; Supplier Part Number 2: 74C9792; Supplier 3: Mouser; Supplier Part Number 3: 595-INA132UA/2K5; Eco-Plan: Green (RoHS & no Sb/Br); Number of Channels: 1; SubFamily: Difference Amplifier; Mounting Technology: Surface Mount; Code_JEDEC: MS-012; ComponentLink1Description: Manufacturer URL; ComponentLink1URL: http://www.ti.com/; ComponentLink2Description: Datasheet; ComponentLink2URL: http://www.ti.com/general/docs/lit/getliterature.tsp?genericPartNumber=INA132&fileType=pdf; ComponentLink3Description: Package Specification; ComponentLink3URL: http://www.ti.com/litv/pdf/msoi002j
footprint TI-D8_N (SOIC, 8-Leads, Body 5x4mm, Pitch 1.27mm, IPC Medium Density)
footprint TI-D8_L (SOIC, 8-Leads, Body 5x4mm, Pitch 1.27mm, IPC High Density)
footprint TI-D8_M (SOIC, 8-Leads, Body 5x4mm, Pitch 1.27mm, IPC Low Density)
pins: 1 REF (in), 2 IN- (in), 3 IN+ (in), 4 V- (power), 5 SENSE (in), 6 OUT (out), 7 V+ (power), 8 NC

## INA132UA/2K5E4
designator U?
Low Power, Single-Supply Difference Amplifier, -40 to 85 degC, 8-pin SOIC (D8), Green (RoHS & no Sb/Br); Manufacturer: Texas Instruments; PartNumber: INA132UA/2K5E4; CMRR(Min)(dB): 70; Gain(V/V): 1; Input Offset (+/-)(Max)(uV): 500; Slew Rate(Typ)(V/us): 0.1; Vs(Max)(V): 36; Vs(Min)(V): 2.7; DatasheetVersion: SBOS059; PackageVersion: 4040047-3/M, 06/2011; PackageReference: D8; PackageDescription: 8-Pin Plastic Small Outline, Body 4.9 x 3.9 mm, Pitch 1.27 mm; Supplier 1: Digi-Key; Supplier Part Number 1: INA132UA/2K5E4-ND; Supplier 2: Mouser; Supplier Part Number 2: 595-INA132UA/2K5E4; Eco-Plan: Green (RoHS & no Sb/Br); Number of Channels: 1; SubFamily: Difference Amplifier; Mounting Technology: Surface Mount; Code_JEDEC: MS-012; ComponentLink1Description: Manufacturer URL; ComponentLink1URL: http://www.ti.com/; ComponentLink2Description: Datasheet; ComponentLink2URL: http://www.ti.com/general/docs/lit/getliterature.tsp?genericPartNumber=INA132&fileType=pdf; ComponentLink3Description: Package Specification; ComponentLink3URL: http://www.ti.com/litv/pdf/msoi002j
footprint TI-D8_N (SOIC, 8-Leads, Body 5x4mm, Pitch 1.27mm, IPC Medium Density)
footprint TI-D8_L (SOIC, 8-Leads, Body 5x4mm, Pitch 1.27mm, IPC High Density)
footprint TI-D8_M (SOIC, 8-Leads, Body 5x4mm, Pitch 1.27mm, IPC Low Density)
pins: 1 REF (in), 2 IN- (in), 3 IN+ (in), 4 V- (power), 5 SENSE (in), 6 OUT (out), 7 V+ (power), 8 NC

## INA132UAE4
designator U?
Low Power, Single-Supply Difference Amplifier, -40 to 85 degC, 8-pin SOIC (D8), Green (RoHS & no Sb/Br); Manufacturer: Texas Instruments; PartNumber: INA132UAE4; CMRR(Min)(dB): 70; Gain(V/V): 1; Input Offset (+/-)(Max)(uV): 500; Slew Rate(Typ)(V/us): 0.1; Vs(Max)(V): 36; Vs(Min)(V): 2.7; DatasheetVersion: SBOS116; PackageVersion: 4040047-3/M, 06/2011; PackageReference: D8; PackageDescription: 8-Pin Plastic Small Outline, Body 4.9 x 3.9 mm, Pitch 1.27 mm; Supplier 1: Digi-Key; Supplier Part Number 1: INA132UAE4-ND; Supplier 2: Mouser; Supplier Part Number 2: 595-INA132UAE4; Eco-Plan: Green (RoHS & no Sb/Br); Number of Channels: 1; SubFamily: Difference Amplifier; Mounting Technology: Surface Mount; Code_JEDEC: MS-012; ComponentLink1Description: Manufacturer URL; ComponentLink1URL: http://www.ti.com/; ComponentLink2Description: Datasheet; ComponentLink2URL: http://www.ti.com/general/docs/lit/getliterature.tsp?genericPartNumber=INA143&fileType=pdf; ComponentLink3Description: Package Specification; ComponentLink3URL: http://www.ti.com/litv/pdf/msoi002j
footprint TI-D8_N (SOIC, 8-Leads, Body 5x4mm, Pitch 1.27mm, IPC Medium Density)
footprint TI-D8_L (SOIC, 8-Leads, Body 5x4mm, Pitch 1.27mm, IPC High Density)
footprint TI-D8_M (SOIC, 8-Leads, Body 5x4mm, Pitch 1.27mm, IPC Low Density)
pins: 1 REF (in), 2 IN- (in), 3 IN+ (in), 4 V- (power), 5 SENSE (in), 6 OUT (out), 7 V+ (power), 8 NC

## INA132UAG4
designator U?
Low Power, Single-Supply Difference Amplifier, -40 to 85 degC, 8-pin SOIC (D8), Green (RoHS & no Sb/Br); Manufacturer: Texas Instruments; PartNumber: INA132UAG4; CMRR(Min)(dB): 70; Gain(V/V): 1; Input Offset (+/-)(Max)(uV): 500; Slew Rate(Typ)(V/us): 0.1; Vs(Max)(V): 36; Vs(Min)(V): 2.7; DatasheetVersion: SBOS116; PackageVersion: 4040047-3/M, 06/2011; PackageReference: D8; PackageDescription: 8-Pin Plastic Small Outline, Body 4.9 x 3.9 mm, Pitch 1.27 mm; Supplier 1: Digi-Key; Supplier Part Number 1: INA132UAG4-ND; Supplier 2: Mouser; Supplier Part Number 2: 595-INA132UAG4; Eco-Plan: Green (RoHS & no Sb/Br); Number of Channels: 1; SubFamily: Difference Amplifier; Mounting Technology: Surface Mount; Code_JEDEC: MS-012; ComponentLink1Description: Manufacturer URL; ComponentLink1URL: http://www.ti.com/; ComponentLink2Description: Datasheet; ComponentLink2URL: http://www.ti.com/general/docs/lit/getliterature.tsp?genericPartNumber=INA143&fileType=pdf; ComponentLink3Description: Package Specification; ComponentLink3URL: http://www.ti.com/litv/pdf/msoi002j
footprint TI-D8_N (SOIC, 8-Leads, Body 5x4mm, Pitch 1.27mm, IPC Medium Density)
footprint TI-D8_L (SOIC, 8-Leads, Body 5x4mm, Pitch 1.27mm, IPC High Density)
footprint TI-D8_M (SOIC, 8-Leads, Body 5x4mm, Pitch 1.27mm, IPC Low Density)
pins: 1 REF (in), 2 IN- (in), 3 IN+ (in), 4 V- (power), 5 SENSE (in), 6 OUT (out), 7 V+ (power), 8 NC

## INA132UG4
designator U?
Low Power, Single-Supply Difference Amplifier, -40 to 85 degC, 8-pin SOIC (D8), Green (RoHS & no Sb/Br); Manufacturer: Texas Instruments; PartNumber: INA132UG4; CMRR(Min)(dB): 76; Gain(V/V): 1; Input Offset (+/-)(Max)(uV): 250; Slew Rate(Typ)(V/us): 0.1; Vs(Max)(V): 36; Vs(Min)(V): 2.7; DatasheetVersion: SBOS116; PackageVersion: 4040047-3/M, 06/2011; PackageReference: D8; PackageDescription: 8-Pin Plastic Small Outline, Body 4.9 x 3.9 mm, Pitch 1.27 mm; Supplier 1: Digi-Key; Supplier Part Number 1: INA132UG4-ND; Supplier 2: Mouser; Supplier Part Number 2: 595-INA132UG4; Eco-Plan: Green (RoHS & no Sb/Br); Number of Channels: 1; SubFamily: Difference Amplifier; Mounting Technology: Surface Mount; Code_JEDEC: MS-012; ComponentLink1Description: Manufacturer URL; ComponentLink1URL: http://www.ti.com/; ComponentLink2Description: Datasheet; ComponentLink2URL: http://www.ti.com/general/docs/lit/getliterature.tsp?genericPartNumber=INA143&fileType=pdf; ComponentLink3Description: Package Specification; ComponentLink3URL: http://www.ti.com/litv/pdf/msoi002j
footprint TI-D8_N (SOIC, 8-Leads, Body 5x4mm, Pitch 1.27mm, IPC Medium Density)
footprint TI-D8_L (SOIC, 8-Leads, Body 5x4mm, Pitch 1.27mm, IPC High Density)
footprint TI-D8_M (SOIC, 8-Leads, Body 5x4mm, Pitch 1.27mm, IPC Low Density)
pins: 1 REF (in), 2 IN- (in), 3 IN+ (in), 4 V- (power), 5 SENSE (in), 6 OUT (out), 7 V+ (power), 8 NC

## INA133U
designator U?
High-Speed, Precision Difference Amplifier, -40 to 85 degC, 8-pin SOIC (D8), Green (RoHS & no Sb/Br); Manufacturer: Texas Instruments; PartNumber: INA133U; CMRR(Min)(dB): 80; Gain(V/V): 1; Input Offset (+/-)(Max)(uV): 450; Slew Rate(Typ)(V/us): 5; Vs(Max)(V): 36; DatasheetVersion: SBOS115; PackageVersion: 4040047-3/M, 06/2011; PackageReference: D8; PackageDescription: 8-Pin Plastic Small Outline, Body 4.9 x 3.9 mm, Pitch 1.27 mm; Supplier 1: Digi-Key; Supplier Part Number 1: INA133U-ND; Supplier 2: Farnell; Supplier Part Number 2: 2323250; Supplier 3: Newark; Supplier Part Number 3: 80K5903; Supplier 4: Mouser; Supplier Part Number 4: 595-INA133U; Eco-Plan: Green (RoHS & no Sb/Br); Number of Channels: 1; SubFamily: Difference Amplifier; Vs(Min)(V): 5; Mounting Technology: Surface Mount; Code_JEDEC: MS-012; ComponentLink1Description: Manufacturer URL; ComponentLink1URL: http://www.ti.com/; ComponentLink2Description: Datasheet; ComponentLink2URL: http://www.ti.com/general/docs/lit/getliterature.tsp?genericPartNumber=INA133&fileType=pdf; ComponentLink3Description: Package Specification; ComponentLink3URL: http://www.ti.com/litv/pdf/msoi002j
footprint TI-D8_N (SOIC, 8-Leads, Body 5x4mm, Pitch 1.27mm, IPC Medium Density)
footprint TI-D8_L (SOIC, 8-Leads, Body 5x4mm, Pitch 1.27mm, IPC High Density)
footprint TI-D8_M (SOIC, 8-Leads, Body 5x4mm, Pitch 1.27mm, IPC Low Density)
pins: 1 REF (in), 2 IN- (in), 3 IN+ (in), 4 V- (power), 5 SENSE (in), 6 OUT (out), 7 V+ (power), 8 NC

## INA133U/2K5
designator U?
High-Speed, Precision Difference Amplifier, -40 to 85 degC, 8-pin SOIC (D8), Green (RoHS & no Sb/Br); Manufacturer: Texas Instruments; PartNumber: INA133U/2K5; CMRR(Min)(dB): 80; Gain(V/V): 1; Input Offset (+/-)(Max)(uV): 450; Slew Rate(Typ)(V/us): 5; Vs(Max)(V): 36; DatasheetVersion: SBOS115; PackageVersion: 4040047-3/M, 06/2011; PackageReference: D8; PackageDescription: 8-Pin Plastic Small Outline, Body 4.9 x 3.9 mm, Pitch 1.27 mm; Supplier 1: Digi-Key; Supplier Part Number 1: INA133U/2K5-ND; Supplier 2: Newark; Supplier Part Number 2: 74C9793; Supplier 3: Mouser; Supplier Part Number 3: 595-INA133U/2K5; Eco-Plan: Green (RoHS & no Sb/Br); Number of Channels: 1; SubFamily: Difference Amplifier; Vs(Min)(V): 5; Mounting Technology: Surface Mount; Code_JEDEC: MS-012; ComponentLink1Description: Manufacturer URL; ComponentLink1URL: http://www.ti.com/; ComponentLink2Description: Datasheet; ComponentLink2URL: http://www.ti.com/general/docs/lit/getliterature.tsp?genericPartNumber=INA133&fileType=pdf; ComponentLink3Description: Package Specification; ComponentLink3URL: http://www.ti.com/litv/pdf/msoi002j
footprint TI-D8_N (SOIC, 8-Leads, Body 5x4mm, Pitch 1.27mm, IPC Medium Density)
footprint TI-D8_L (SOIC, 8-Leads, Body 5x4mm, Pitch 1.27mm, IPC High Density)
footprint TI-D8_M (SOIC, 8-Leads, Body 5x4mm, Pitch 1.27mm, IPC Low Density)
pins: 1 REF (in), 2 IN- (in), 3 IN+ (in), 4 V- (power), 5 SENSE (in), 6 OUT (out), 7 V+ (power), 8 NC

## INA133U/2K5E4
designator U?
High-Speed, Precision Difference Amplifier, -40 to 85 degC, 8-pin SOIC (D8), Green (RoHS & no Sb/Br); Manufacturer: Texas Instruments; PartNumber: INA133U/2K5E4; CMRR(Min)(dB): 80; Gain(V/V): 1; Input Offset (+/-)(Max)(uV): 450; Slew Rate(Typ)(V/us): 5; Vs(Max)(V): 36; DatasheetVersion: SBOS115; PackageVersion: 4040047-3/M, 06/2011; PackageReference: D8; PackageDescription: 8-Pin Plastic Small Outline, Body 4.9 x 3.9 mm, Pitch 1.27 mm; Supplier 1: Digi-Key; Supplier Part Number 1: INA133U/2K5E4-ND; Supplier 2: Mouser; Supplier Part Number 2: 595-INA133U/2K5E4; Eco-Plan: Green (RoHS & no Sb/Br); Number of Channels: 1; SubFamily: Difference Amplifier; Vs(Min)(V): 5; Mounting Technology: Surface Mount; Code_JEDEC: MS-012; ComponentLink1Description: Manufacturer URL; ComponentLink1URL: http://www.ti.com/; ComponentLink2Description: Datasheet; ComponentLink2URL: http://www.ti.com/general/docs/lit/getliterature.tsp?genericPartNumber=INA133&fileType=pdf; ComponentLink3Description: Package Specification; ComponentLink3URL: http://www.ti.com/litv/pdf/msoi002j
footprint TI-D8_N (SOIC, 8-Leads, Body 5x4mm, Pitch 1.27mm, IPC Medium Density)
footprint TI-D8_L (SOIC, 8-Leads, Body 5x4mm, Pitch 1.27mm, IPC High Density)
footprint TI-D8_M (SOIC, 8-Leads, Body 5x4mm, Pitch 1.27mm, IPC Low Density)
pins: 1 REF (in), 2 IN- (in), 3 IN+ (in), 4 V- (power), 5 SENSE (in), 6 OUT (out), 7 V+ (power), 8 NC

## INA133UA
designator U?
High-Speed, Precision Difference Amplifier, -40 to 85 degC, 8-pin SOIC (D8), Green (RoHS & no Sb/Br); Manufacturer: Texas Instruments; PartNumber: INA133UA; CMRR(Min)(dB): 74; Gain(V/V): 1; Input Offset (+/-)(Max)(uV): 900; Slew Rate(Typ)(V/us): 5; Vs(Max)(V): 36; DatasheetVersion: SBOS115; PackageVersion: 4040047-3/M, 06/2011; PackageReference: D8; PackageDescription: 8-Pin Plastic Small Outline, Body 4.9 x 3.9 mm, Pitch 1.27 mm; Supplier 1: Digi-Key; Supplier Part Number 1: INA133UA-ND; Supplier 2: Farnell; Supplier Part Number 2: 1097460; Supplier 3: Newark; Supplier Part Number 3: 74C9794; Supplier 4: Mouser; Supplier Part Number 4: 595-INA133UA; Eco-Plan: Green (RoHS & no Sb/Br); Number of Channels: 1; SubFamily: Difference Amplifier; Vs(Min)(V): 5; Mounting Technology: Surface Mount; Code_JEDEC: MS-012; ComponentLink1Description: Manufacturer URL; ComponentLink1URL: http://www.ti.com/; ComponentLink2Description: Datasheet; ComponentLink2URL: http://www.ti.com/general/docs/lit/getliterature.tsp?genericPartNumber=INA133&fileType=pdf; ComponentLink3Description: Package Specification; ComponentLink3URL: http://www.ti.com/litv/pdf/msoi002j
footprint TI-D8_N (SOIC, 8-Leads, Body 5x4mm, Pitch 1.27mm, IPC Medium Density)
footprint TI-D8_L (SOIC, 8-Leads, Body 5x4mm, Pitch 1.27mm, IPC High Density)
footprint TI-D8_M (SOIC, 8-Leads, Body 5x4mm, Pitch 1.27mm, IPC Low Density)
pins: 1 REF (in), 2 IN- (in), 3 IN+ (in), 4 V- (power), 5 SENSE (in), 6 OUT (out), 7 V+ (power), 8 NC

## INA133UA/2K5
designator U?
High-Speed, Precision Difference Amplifier, -40 to 85 degC, 8-pin SOIC (D8), Green (RoHS & no Sb/Br); Manufacturer: Texas Instruments; PartNumber: INA133UA/2K5; CMRR(Min)(dB): 74; Gain(V/V): 1; Input Offset (+/-)(Max)(uV): 900; Slew Rate(Typ)(V/us): 5; Vs(Max)(V): 36; DatasheetVersion: SBOS115; PackageVersion: 4040047-3/M, 06/2011; PackageReference: D8; PackageDescription: 8-Pin Plastic Small Outline, Body 4.9 x 3.9 mm, Pitch 1.27 mm; Supplier 1: Digi-Key; Supplier Part Number 1: INA133UA/2K5-ND; Supplier 2: Mouser; Supplier Part Number 2: 595-INA133UA/2K5; Eco-Plan: Green (RoHS & no Sb/Br); Number of Channels: 1; SubFamily: Difference Amplifier; Vs(Min)(V): 5; Mounting Technology: Surface Mount; Code_JEDEC: MS-012; ComponentLink1Description: Manufacturer URL; ComponentLink1URL: http://www.ti.com/; ComponentLink2Description: Datasheet; ComponentLink2URL: http://www.ti.com/general/docs/lit/getliterature.tsp?genericPartNumber=INA133&fileType=pdf; ComponentLink3Description: Package Specification; ComponentLink3URL: http://www.ti.com/litv/pdf/msoi002j
footprint TI-D8_N (SOIC, 8-Leads, Body 5x4mm, Pitch 1.27mm, IPC Medium Density)
footprint TI-D8_L (SOIC, 8-Leads, Body 5x4mm, Pitch 1.27mm, IPC High Density)
footprint TI-D8_M (SOIC, 8-Leads, Body 5x4mm, Pitch 1.27mm, IPC Low Density)
pins: 1 REF (in), 2 IN- (in), 3 IN+ (in), 4 V- (power), 5 SENSE (in), 6 OUT (out), 7 V+ (power), 8 NC

## INA133UA/2K5E4
designator U?
High-Speed, Precision Difference Amplifier, -40 to 85 degC, 8-pin SOIC (D8), Green (RoHS & no Sb/Br); Manufacturer: Texas Instruments; PartNumber: INA133UA/2K5E4; CMRR(Min)(dB): 74; Gain(V/V): 1; Input Offset (+/-)(Max)(uV): 900; Slew Rate(Typ)(V/us): 5; Vs(Max)(V): 36; DatasheetVersion: SBOS115; PackageVersion: 4040047-3/M, 06/2011; PackageReference: D8; PackageDescription: 8-Pin Plastic Small Outline, Body 4.9 x 3.9 mm, Pitch 1.27 mm; Supplier 1: Digi-Key; Supplier Part Number 1: INA133UA/2K5E4-ND; Supplier 2: Mouser; Supplier Part Number 2: 595-INA133UA/2K5E4; Eco-Plan: Green (RoHS & no Sb/Br); Number of Channels: 1; SubFamily: Difference Amplifier; Vs(Min)(V): 5; Mounting Technology: Surface Mount; Code_JEDEC: MS-012; ComponentLink1Description: Manufacturer URL; ComponentLink1URL: http://www.ti.com/; ComponentLink2Description: Datasheet; ComponentLink2URL: http://www.ti.com/general/docs/lit/getliterature.tsp?genericPartNumber=INA133&fileType=pdf; ComponentLink3Description: Package Specification; ComponentLink3URL: http://www.ti.com/litv/pdf/msoi002j
footprint TI-D8_N (SOIC, 8-Leads, Body 5x4mm, Pitch 1.27mm, IPC Medium Density)
footprint TI-D8_L (SOIC, 8-Leads, Body 5x4mm, Pitch 1.27mm, IPC High Density)
footprint TI-D8_M (SOIC, 8-Leads, Body 5x4mm, Pitch 1.27mm, IPC Low Density)
pins: 1 REF (in), 2 IN- (in), 3 IN+ (in), 4 V- (power), 5 SENSE (in), 6 OUT (out), 7 V+ (power), 8 NC

## INA133UAE4
designator U?
High-Speed, Precision Difference Amplifier, -40 to 85 degC, 8-pin SOIC (D8), Green (RoHS & no Sb/Br); Manufacturer: Texas Instruments; PartNumber: INA133UAE4; CMRR(Min)(dB): 74; Gain(V/V): 1; Input Offset (+/-)(Max)(uV): 900; Slew Rate(Typ)(V/us): 5; Vs(Max)(V): 36; DatasheetVersion: SBOS115; PackageVersion: 4040047-3/M, 06/2011; PackageReference: D8; PackageDescription: 8-Pin Plastic Small Outline, Body 4.9 x 3.9 mm, Pitch 1.27 mm; Supplier 1: Digi-Key; Supplier Part Number 1: INA133UAE4-ND; Supplier 2: Mouser; Supplier Part Number 2: 595-INA133UAE4; Eco-Plan: Green (RoHS & no Sb/Br); Number of Channels: 1; SubFamily: Difference Amplifier; Vs(Min)(V): 5; Mounting Technology: Surface Mount; Code_JEDEC: MS-012; ComponentLink1Description: Manufacturer URL; ComponentLink1URL: http://www.ti.com/; ComponentLink2Description: Datasheet; ComponentLink2URL: http://www.ti.com/general/docs/lit/getliterature.tsp?genericPartNumber=INA133&fileType=pdf; ComponentLink3Description: Package Specification; ComponentLink3URL: http://www.ti.com/litv/pdf/msoi002j
footprint TI-D8_N (SOIC, 8-Leads, Body 5x4mm, Pitch 1.27mm, IPC Medium Density)
footprint TI-D8_L (SOIC, 8-Leads, Body 5x4mm, Pitch 1.27mm, IPC High Density)
footprint TI-D8_M (SOIC, 8-Leads, Body 5x4mm, Pitch 1.27mm, IPC Low Density)
pins: 1 REF (in), 2 IN- (in), 3 IN+ (in), 4 V- (power), 5 SENSE (in), 6 OUT (out), 7 V+ (power), 8 NC